# EAGLE library part ATTINY85-SOCKET (library MODEL2OBJECT)
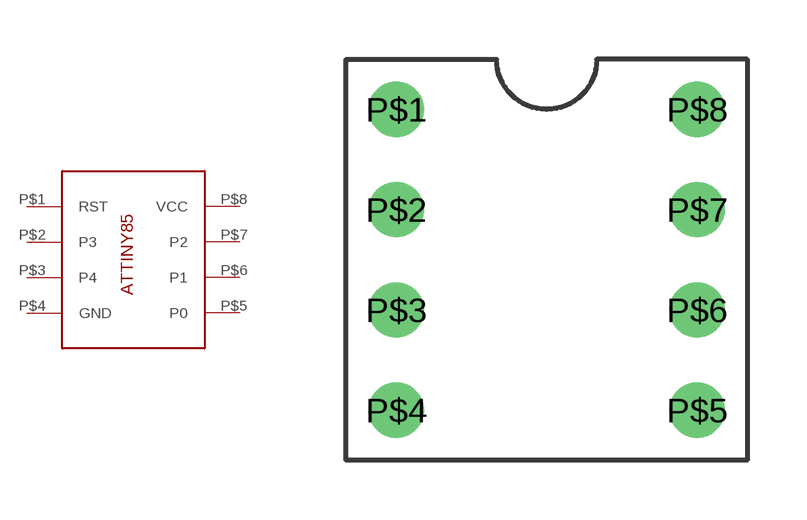
[diagram p0: symbol with the pads of DIP8SOCKET; footprint DIP8SOCKET]

Designator prefix -

## ATTINY85-SOCKET  [DIP8SOCKET]
P$1  RST
P$2  P3
P$3  P4
P$4  GND
P$5  P0
P$6  P1
P$7  P2
P$8  VCC

## Footprint DIP8SOCKET (pad centres in mm)
drill 0.889: P$1 0,0; P$2 0,-2.54; P$3 0,-5.08; P$4 0,-7.62; P$5 7.62,-7.62; P$6 7.62,-5.08; P$7 7.62,-2.54; P$8 7.62,0